# Altium schematic symbol library BQ79614PAPRQ1.SchLib: 1 symbol
Pins are listed as number, name and electrical type; pins without a type are passive.

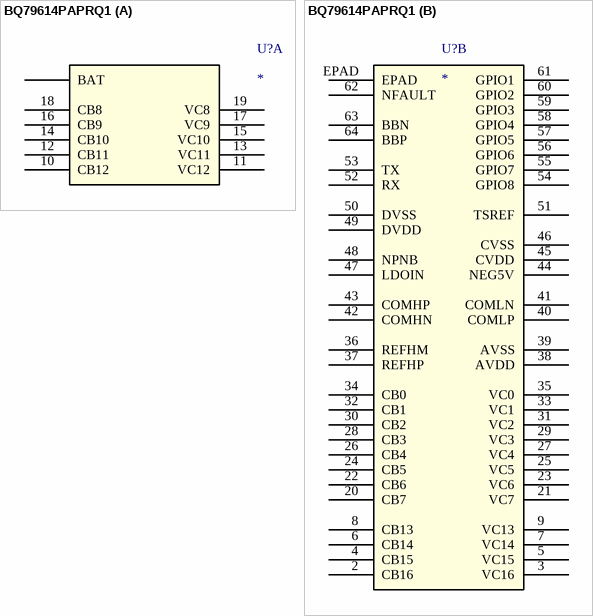
[diagram p0: symbol BQ79614PAPRQ1]

## BQ79614PAPRQ1
designator U?
No Description Available; Mfr_Name: Texas Instruments; RefDes: RefDes; Type: Type
footprint QFP_4PAPRQ1_TEX; pin to pad 2>2  3>3  4>4  5>5  6>6  7>7  8>8  9>9  12>12  13>13  14>14  15>15  16>16  17>17  18>18  19>19  20>20  21>21  22>22  23>23  24>24  25>25  26>26  27>27  28>28  29>29  30>30  31>31  32>32  33>33  34>34  35>35  36>36  37>37  38>38  39>39  40>40  42>42  43>43  44>44  45>45  46>46  47>47  48>48  49>49  50>50  51>51  52>52  53>53  54>54  55>55  56>56  57>57  58>58  59>59  60>60  61>61  62>62  63>63  64>64 
part A pins: 10 CB12, 11 VC12, 12 CB11, 13 VC11, 14 CB10, 15 VC10, 16 CB9, 17 VC9, 18 CB8, 19 VC8, ?1 BAT
part B pins: 2 CB16, 3 VC16, 4 CB15, 5 VC15, 6 CB14, 7 VC14, 8 CB13, 9 VC13, 20 CB7, 21 VC7, 22 CB6, 23 VC6, 24 CB5, 25 VC5, 26 CB4, 27 VC4, 28 CB3, 29 VC3, 30 CB2, 31 VC2, 32 CB1, 33 VC1, 34 CB0, 35 VC0, 36 REFHM, 37 REFHP, 38 AVDD, 39 AVSS, 40 COMLP, 41 COMLN, 42 COMHN, 43 COMHP, 44 NEG5V, 45 CVDD, 46 CVSS, 47 LDOIN, 48 NPNB, 49 DVDD, 50 DVSS, 51 TSREF, 52 RX, 53 TX, 54 GPIO8, 55 GPIO7, 56 GPIO6, 57 GPIO5, 58 GPIO4, 59 GPIO3, 60 GPIO2, 61 GPIO1, 62 NFAULT, 63 BBN, 64 BBP, EPAD